# Altium footprint library TI SC-70-6 DCK.PcbLib: 1 footprints
Each footprint in its own frame and in the unit in brackets; x right, y up, seen from the top. Pads: shape width x height; smd on the part's side, far side on the other; paste and mask are expansions set on the pad; w line width, h text height; cw(c..) or ccw(c..) is an arc to the next point about the centre after c.
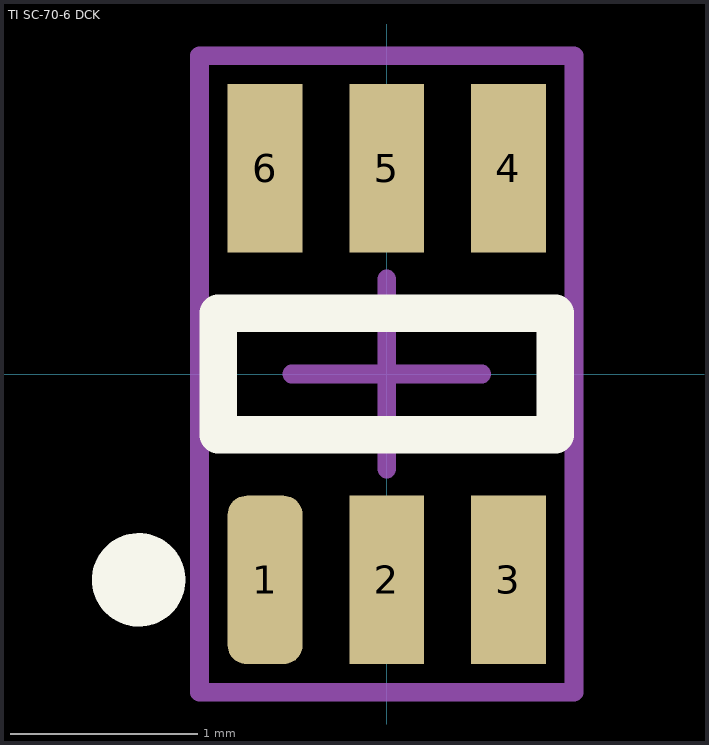
[diagram p0: the footprint, top view; thin cyan lines are the x and y axes]

## TI SC-70-6 DCK [mm]
pads (6):
  rrect50% 0.4x0.9 smd: 1(-0.65,-1.1)
  rect 0.4x0.9 smd: 2(0,-1.1) 3(0.65,-1.1) 4(0.65,1.1) 5(0,1.1) 6(-0.65,1.1)
Top Overlay:
  circle w0.25: c-1.325,-1.1 r0.125
  lines w0.2: -0.9,-0.325 0.9,-0.325 0.9,0.325 -0.9,0.325 -0.9,-0.325
Mechanical 11:
  lines w0.1: -0.508,0 0.508,0 ; 0,-0.508 0,0.508
Mechanical 15:
  lines w0.1: -1,-1.7 1,-1.7 1,1.7 -1,1.7 -1,-1.7
3D body "TI SC-70-6 DCK.stp": height 1, standoff 0, extent -1,-1.05 1,1.05